# Altium footprint library Internal_Lib_Thermostat_STM8.PcbLib: 18 footprints (part 1 of 2)
Each footprint in its own frame and in the unit in brackets; x right, y up, seen from the top. Pads: shape width x height; smd on the part's side, far side on the other; paste and mask are expansions set on the pad; w line width, h text height; cw(c..) or ccw(c..) is an arc to the next point about the centre after c.
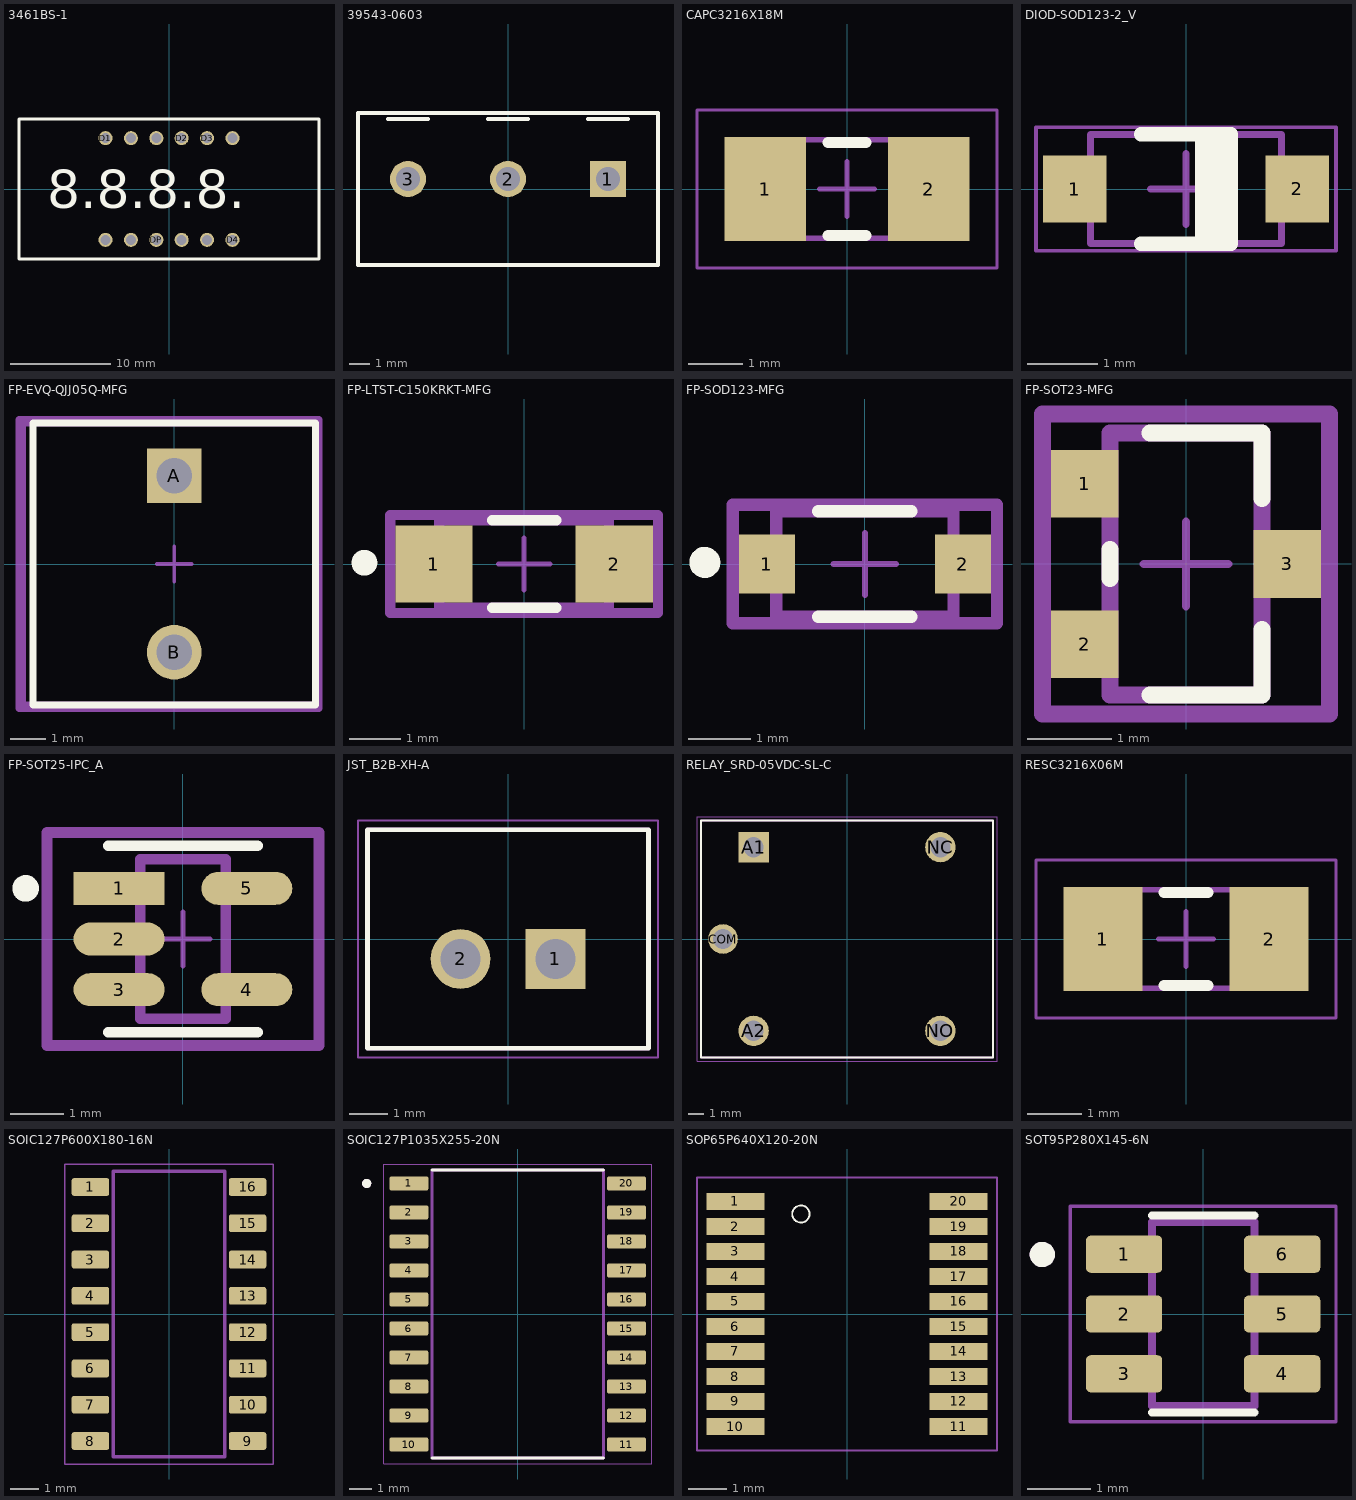
[diagram p0: the footprints below, top view; thin cyan lines are the x and y axes]

## 3461BS-1 [mm] "4 digit 7 segment led common anode led display"
height 0.183
pads (12):
  round 1.406 hole 1: D1(-6.35,5.08) D2(1.27,5.08) D3(3.81,5.08) D4(6.35,-5.08) DP(-1.27,-5.08) SEGA(-3.81,5.08) SEGB(6.35,5.08) SEGC(1.27,-5.08) SEGD(-3.81,-5.08) SEGE(-6.35,-5.08) SEGF(-1.27,5.08) SEGG(3.81,-5.08)
Top Overlay:
  lines w0.254: -15,-7 -15,7 15,7 15,-7 -15,-7
  text "8.8.8.8." at -12.192,-1.905 h3.81
3D body "SEVE_SEG_036INX4.stp": height 7.6, standoff -3.7, extent -14.924,-6.985 15.076,7.015

## 39543-0603 [mm]
pads (3):
  rect 1.8x1.8 / inner round 1.8 / far side rect 1.8x1.8 hole 1.2: 1(5,0.5)
  round 1.8 hole 1.2: 2(0,0.5) 3(-5,0.5)
Top Overlay:
  lines w0.2: -6,3.5 -4,3.5 ; -1,3.5 1,3.5 ; 4,3.5 6,3.5 ; -7.5,-3.8 -7.5,3.8 7.5,3.8 7.5,-3.8 -7.5,-3.8
Top 3D Body:
  lines w0.05: -7.5,-3.8 -7.5,3.8 7.5,3.8 7.5,-3.8 -7.5,-3.8
3D body "DG306-5.0-03P-12-00AH.STEP": height 10.5, standoff -3.4, extent -7.525,-3.989 8.075,3.611

## CAPC3216X18M [mm] "Chip Capacitor, 2-Leads, Body 3,20x1,60mm, IPC Low Density"
height 1.8
pads (2):
  rect 1.5x1.9 smd: 1(-1.5,0) 2(1.5,0)
Top Overlay:
  lines w0.2: -0.35,-0.85 0.35,-0.85 ; -0.35,0.85 0.35,0.85
Top Assembly:
  lines w0.1: -1.7,-0.9 -1.7,0.9 1.7,0.9 1.7,-0.9 -1.7,-0.9
Top Courtyard:
  lines w0.05: -2.75,-1.45 -2.75,1.45 2.75,1.45 2.75,-1.45 -2.75,-1.45
  lines w0.1: -0.5,0 0.5,0 ; 0,-0.5 0,0.5
3D body: height 1.8, standoff 0, extent -1.7,-0.9 -1.2,0.9
3D body: height 1.8, standoff 0, extent 1.2,-0.9 1.7,0.9
3D body: height 1.8, standoff 0, extent -1.2,-0.9 1.2,0.9

## DIOD-SOD123-2_V [mm] "SOD123, 2-Leads, Body 2.7x1.55mm, Height 1.45mm"
height 1.45
pads (2):
  rect 0.9x0.95 smd: 1(-1.575,0) 2(1.575,0)
Top Overlay:
  rectangle: 0.127,-0.825 0.635,0.762
  lines w0.2: -0.635,-0.775 0.635,-0.775 0.635,0.775 -0.635,0.775
Top 3D Body:
  lines w0.1: -1.35,-0.775 1.35,-0.775 1.35,0.775 -1.35,0.775 -1.35,-0.775
Top Courtyard:
  lines w0.05: -2.125,-0.875 2.125,-0.875 2.125,0.875 -2.125,0.875 -2.125,-0.875
  lines w0.1: -0.5,0 0.5,0 ; 0,-0.5 0,0.5
3D body: height 1.45, standoff 0, extent -1.35,-0.775 1.35,0.775

## FP-EVQ-QJJ05Q-MFG [mm]
pads (2):
  rect 1.55x1.55 hole 1 paste-2539.97 mask+0: A(0,2.5)
  round 1.55 hole 1 paste-2539.97 mask+0: B(0,-2.5)
Top Overlay:
  lines w0.2: -4,-4 4,-4 4,4 -4,4 -4,-4
Top Assembly:
  lines w0.2: -4.4,-4.1 4.1,-4.1 4.1,4.1 -4.4,4.1 -4.4,-4.1
  text ".Designator" at -0.15,-0.001 h1
Top 3D Body:
  lines w0.2: -4.3,-4 4,-4 4,4 -4.3,4 -4.3,-4
Top Courtyard:
  lines w0.2: -4.4,-4.1 4.1,-4.1 4.1,4.1 -4.4,4.1 -4.4,-4.1
Top Component Center:
  lines w0.1: -0.5,0 0.5,0 ; 0,-0.5 0,0.5
3D body "Switch_Panasonic_Electronic_Components_EVQ-QJJ05Q_eec.STEP": height 0.25, standoff 0, extent -4.4,-4.1 4.1,4.1

## FP-LTST-C150KRKT-MFG [mm]
pads (2):
  rect 1.5x1.5 smd paste+0 mask+0: 1(-1.75,0) 2(1.75,0)
Top Overlay:
  circle w0.25: c-3.1,0.025 r0.125
  lines w0.2: -0.625,-0.85 0.625,-0.85 ; -0.625,0.85 0.625,0.85
Top Assembly:
  lines w0.2: -2.6,-0.95 2.6,-0.95 2.6,0.95 -2.6,0.95 -2.6,-0.95
  text ".Designator" at 0,-0.188 h1
Top 3D Body:
  lines w0.2: -1.65,-0.85 1.65,-0.85 1.65,0.85 -1.65,0.85 -1.65,-0.85
Top Courtyard:
  lines w0.2: -2.6,-0.95 2.6,-0.95 2.6,0.95 -2.6,0.95 -2.6,-0.95
Top Component Center:
  lines w0.1: -0.5,0 0.5,0 ; 0,-0.5 0,0.5
3D body "Diode_Lite-On_LTST-C150KRKT_eec.STEP": height 0.25, standoff 0, extent -2.6,-0.95 2.6,0.95

## FP-SOD123-MFG [mm]
pads (2):
  rect 0.9x0.95 smd paste+0 mask+0: 1(-1.575,0) 2(1.575,0)
Top Overlay:
  circle w0.25: c-2.575,0.025 r0.125
  lines w0.2: -0.75,-0.85 0.75,-0.85 ; -0.75,0.85 0.75,0.85
Top Assembly:
  lines w0.2: -2.125,-0.95 -2.125,0.95 2.125,0.95 2.125,-0.95 -2.125,-0.95
  text ".Designator" at 0,-0.001 h1
Top 3D Body:
  lines w0.2: -1.425,-0.85 -1.425,0.85 1.425,0.85 1.425,-0.85 -1.425,-0.85
Top Courtyard:
  lines w0.2: -2.125,-0.95 -2.125,0.95 2.125,0.95 2.125,-0.95 -2.125,-0.95
Top Component Center:
  lines w0.1: -0.5,0 0.5,0 ; 0,-0.5 0,0.5
3D body "Diode_Diodes_Inc_MMSZ5245B-7-F_eec.STEP": height 0.25, standoff 0, extent -2.125,-0.95 2.125,0.95

## FP-SOT23-MFG [mm]
pads (3):
  rect 0.8x0.8 smd paste+0 mask+0: 1(-1.2,0.95) 2(-1.2,-0.95) 3(1.2,0)
Top Overlay:
  lines w0.2: -0.9,-0.175 -0.9,0.175 ; -0.425,-1.55 0.9,-1.55 0.9,-0.775 ; -0.425,1.55 0.9,1.55 0.9,0.775
Top Assembly:
  lines w0.2: -1.7,-1.777 -1.7,1.777 1.7,1.777 1.7,-1.777 -1.7,-1.777
  text ".Designator" at 0,-0.001 h1
Top 3D Body:
  lines w0.2: -0.9,-1.55 -0.9,1.55 0.9,1.55 0.9,-1.55 -0.9,-1.55
Top Courtyard:
  lines w0.2: -1.7,-1.777 -1.7,1.777 1.7,1.777 1.7,-1.777 -1.7,-1.777
Top Component Center:
  lines w0.1: -0.5,0 0.5,0 ; 0,-0.5 0,0.5
3D body "Trans_Alpha_&_Omega_Semiconductor_AO3400A_eec.STEP": height 0.25, standoff 0, extent -1.7,-1.777 1.7,1.777

## FP-SOT25-IPC_A [mm]
pads (5):
  rect 1.707x0.616 smd paste+0 mask+0: 1(-1.201,0.95)
  rrect100% 1.707x0.616 smd paste+0 mask+0: 2(-1.201,0) 3(-1.201,-0.95) 4(1.201,-0.95) 5(1.201,0.95)
Top Overlay:
  circle w0.25: c-2.954,0.95 r0.125
  lines w0.2: -1.4,-1.75 1.4,-1.75 ; -1.4,1.75 1.4,1.75
Top Assembly:
  lines w0.2: -2.554,-2 2.554,-2 2.554,2 -2.554,2 -2.554,-2
  text ".Designator" at 0,-0.001 h1
Top 3D Body:
  lines w0.2: -0.8,-1.5 0.8,-1.5 0.8,1.5 -0.8,1.5 -0.8,-1.5
Top Courtyard:
  lines w0.2: -2.554,-2 2.554,-2 2.554,2 -2.554,2 -2.554,-2
Top Component Center:
  lines w0.1: -0.5,0 0.5,0 ; 0,-0.5 0,0.5
3D body "IC_Diodes_Inc_AP2127K-3_3TRG1_eec.STEP": height 0.25, standoff 0, extent -2.554,-2 2.554,2

## JST_B2B-XH-A [mm]
height 7
pads (2):
  rect 1.575x1.575 / inner round 1.575 / far side rect 1.575x1.575 hole 1.05: 1(1.25,-0.525)
  round 1.575 hole 1.05: 2(-1.25,-0.525)
Top Overlay:
  lines w0.127: -3.7,-2.875 3.7,-2.875 3.7,2.875 -3.7,2.875 -3.7,-2.875
Top 3D Body:
  lines w0.127: -3.7,-2.875 3.7,-2.875 3.7,2.875 -3.7,2.875 -3.7,-2.875
Top Courtyard:
  lines w0.05: -3.95,-3.125 -3.95,3.125 3.95,3.125 3.95,-3.125 -3.95,-3.125
3D body "JST B2B-XH-A Through-hole shrouded header top entry type.step": height 7, standoff -3.4, extent -3.811,-2.962 3.689,2.938

## RELAY_SRD-05VDC-SL-C [mm]
pads (5):
  rect 1.98x1.98 / inner round 1.98 / far side rect 1.98x1.98 hole 1.32: A1(-6.1,6)
  round 1.98 hole 1.32: A2(-6.1,-6) NC(6.1,6) NO(6.1,-6)
  round 1.935 hole 1.29: COM(-8.1,0)
Top Overlay:
  lines w0.127: -9.55,-7.75 -9.55,7.75 9.55,7.75 9.55,-7.75 -9.55,-7.75
Top 3D Body:
  lines w0.127: -9.55,-7.75 -9.55,7.75 9.55,7.75 9.55,-7.75 -9.55,-7.75
Top Courtyard:
  lines w0.05: -9.8,-8 -9.8,8 9.8,8 9.8,-8 -9.8,-8
3D body "step_temp.STEP": height 15.8, standoff -3, extent -9.6,-7.8 9.6,7.8

## RESC3216X06M [mm] "Chip Resistor, 2-Leads, Body 3,20x1,60mm, IPC Low Density"
height 0.6
pads (2):
  rect 1.45x1.9 smd: 1(-1.525,0) 2(1.525,0)
Top Overlay:
  lines w0.2: -0.4,-0.85 0.4,-0.85 ; -0.4,0.85 0.4,0.85
Top Assembly:
  lines w0.1: -1.7,-0.9 1.7,-0.9 1.7,0.9 -1.7,0.9 -1.7,-0.9
Top Courtyard:
  lines w0.05: -2.75,-1.45 2.75,-1.45 2.75,1.45 -2.75,1.45 -2.75,-1.45
  lines w0.1: -0.5,0 0.5,0 ; 0,-0.5 0,0.5
3D body: height 0.6, standoff 0, extent -1.2,-0.9 1.2,0.9
3D body: height 0.6, standoff 0, extent 1.2,-0.9 1.7,0.9
3D body: height 0.6, standoff 0, extent -1.7,-0.9 -1.2,0.9

## SOIC127P600X180-16N [mm]
height 1.8
pads (16):
  rrect25% 1.31x0.62 smd: 1(-2.75,4.445) 2(-2.75,3.175) 3(-2.75,1.905) 4(-2.75,0.635) 5(-2.75,-0.635) 6(-2.75,-1.905) 7(-2.75,-3.175) 8(-2.75,-4.445) 9(2.75,-4.445) 10(2.75,-3.175) 11(2.75,-1.905) 12(2.75,-0.635) 13(2.75,0.635) 14(2.75,1.905) 15(2.75,3.175) 16(2.75,4.445)
Top 3D Body:
  lines w0.127: -1.95,-5 1.95,-5 1.95,5 -1.95,5 -1.95,-5
Top Courtyard:
  lines w0.05: -3.655,-5.25 3.655,-5.25 3.655,5.25 -3.655,5.25 -3.655,-5.25
3D body "step_temp.STEP": height 1.8, standoff 0, extent -3,-5 3,5

## SOIC127P1035X255-20N [mm]
height 2.55
pads (20):
  rrect25% 1.7x0.61 smd: 1(-4.76,5.715) 2(-4.76,4.445) 3(-4.76,3.175) 4(-4.76,1.905) 5(-4.76,0.635) 6(-4.76,-0.635) 7(-4.76,-1.905) 8(-4.76,-3.175) 9(-4.76,-4.445) 10(-4.76,-5.715) 11(4.76,-5.715) 12(4.76,-4.445) 13(4.76,-3.175) 14(4.76,-1.905) 15(4.76,-0.635) 16(4.76,0.635) 17(4.76,1.905) 18(4.76,3.175) 19(4.76,4.445) 20(4.76,5.715)
Top Overlay:
  circle w0.2: c-6.61,5.715 r0.1
  lines w0.127: -3.75,-6.3 3.75,-6.3 ; -3.75,6.3 3.75,6.3
Top 3D Body:
  circle w0.2: c-6.61,5.715 r0.1
  lines w0.127: -3.75,-6.3 3.75,-6.3 3.75,6.3 -3.75,6.3 -3.75,-6.3
Top Courtyard:
  lines w0.05: -5.86,-6.55 -5.86,6.55 5.86,6.55 5.86,-6.55 -5.86,-6.55
3D body "step_temp.STEP": height 2.55, standoff 0, extent -5.175,-6.3 5.175,6.3

## SOP65P640X120-20N [mm]
height 0.2
pads (20):
  rect 1.5x0.45 smd: 1(-2.9,2.925) 2(-2.9,2.275) 3(-2.9,1.625) 4(-2.9,0.975) 5(-2.9,0.325) 6(-2.9,-0.325) 7(-2.9,-0.975) 8(-2.9,-1.625) 9(-2.9,-2.275) 10(-2.9,-2.925) 11(2.9,-2.925) 12(2.9,-2.275) 13(2.9,-1.625) 14(2.9,-0.975) 15(2.9,-0.325) 16(2.9,0.325) 17(2.9,0.975) 18(2.9,1.625) 19(2.9,2.275) 20(2.9,2.925)
Top Overlay:
  circle w0.05: c-1.2,2.6 r0.224
  circle w0.05: c-1.2,2.6 r0.224
Top Courtyard:
  lines w0.05: -3.9,-3.55 3.9,-3.55 3.9,3.55 -3.9,3.55 -3.9,-3.55
3D body "step_temp.STEP": height 1.73, standoff 0.53, extent -3.2,-3.25 3.2,3.25

## SOT95P280X145-6N [mm]
pads (6):
  rrect25% 1.21x0.59 smd: 1(-1.255,0.95) 2(-1.255,0) 3(-1.255,-0.95) 4(1.255,-0.95) 5(1.255,0) 6(1.255,0.95)
Top Overlay:
  circle w0.2: c-2.555,0.945 r0.1
  lines w0.127: -0.813,-1.565 0.813,-1.565 ; -0.813,1.565 0.813,1.565
Top 3D Body:
  circle w0.2: c-2.555,0.945 r0.1
  lines w0.127: -0.813,-1.462 -0.813,1.462 0.813,1.462 0.813,-1.462 -0.813,-1.462
Top Courtyard:
  lines w0.05: -2.11,-1.713 2.11,-1.713 2.11,1.713 -2.11,1.713 -2.11,-1.713
3D body "step_temp.STEP": height 1.4, standoff -0.05, extent -1.4,-1.462 1.4,1.462